# EAGLE library part APS_LPC_M (library flipbit_fmc)
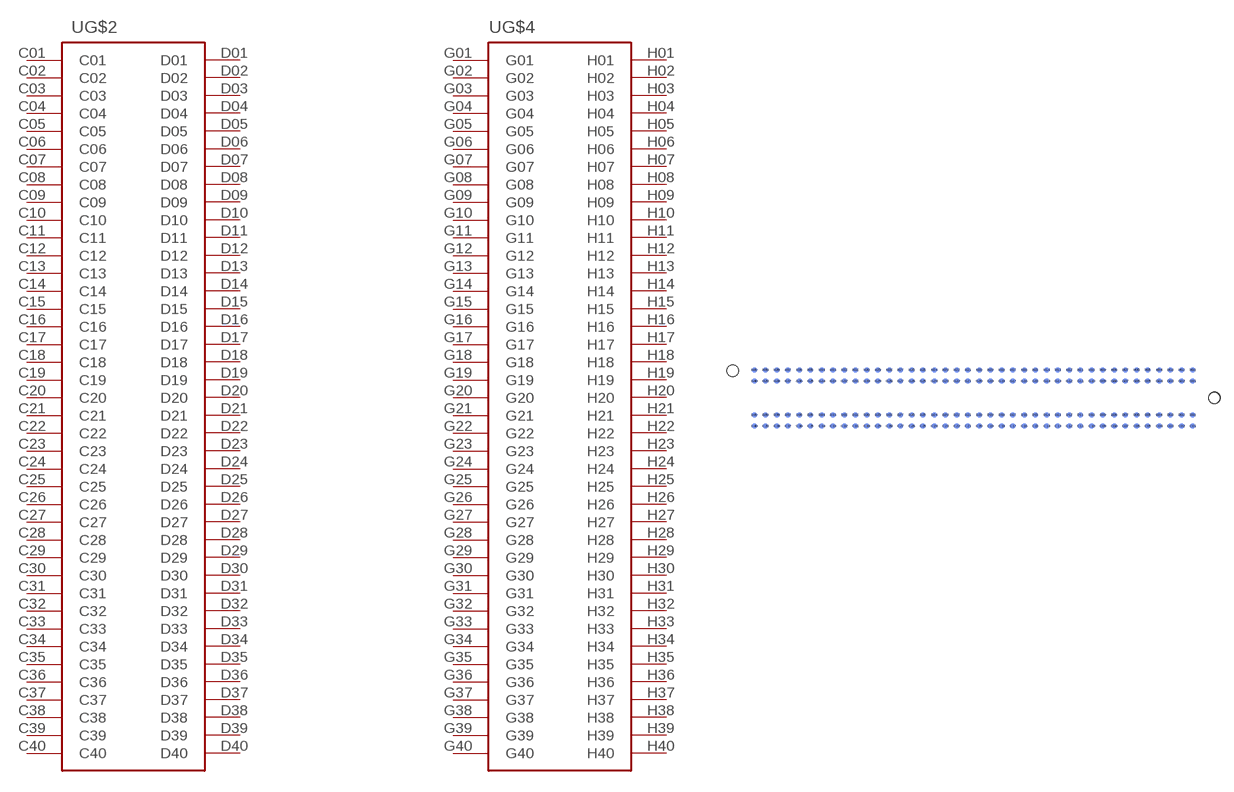
[diagram p5: symbol with the pads of ASP-127797-01; footprint ASP-127797-01]

Designator prefix -; gates G$2=ASP_CD G$4=ASP_GH

## APS_LPC_M  [ASP-127797-01]
C01  G$2:C01
C02  G$2:C02
C03  G$2:C03
C04  G$2:C04
C05  G$2:C05
C06  G$2:C06
C07  G$2:C07
C08  G$2:C08
C09  G$2:C09
C10  G$2:C10
C11  G$2:C11
C12  G$2:C12
C13  G$2:C13
C14  G$2:C14
C15  G$2:C15
C16  G$2:C16
C17  G$2:C17
C18  G$2:C18
C19  G$2:C19
C20  G$2:C20
C21  G$2:C21
C22  G$2:C22
C23  G$2:C23
C24  G$2:C24
C25  G$2:C25
C26  G$2:C26
C27  G$2:C27
C28  G$2:C28
C29  G$2:C29
C30  G$2:C30
C31  G$2:C31
C32  G$2:C32
C33  G$2:C33
C34  G$2:C34
C35  G$2:C35
C36  G$2:C36
C37  G$2:C37
C38  G$2:C38
C39  G$2:C39
C40  G$2:C40
D01  G$2:D01
D02  G$2:D02
D03  G$2:D03
D04  G$2:D04
D05  G$2:D05
D06  G$2:D06
D07  G$2:D07
D08  G$2:D08
D09  G$2:D09
D10  G$2:D10
D11  G$2:D11
D12  G$2:D12
D13  G$2:D13
D14  G$2:D14
D15  G$2:D15
D16  G$2:D16
D17  G$2:D17
D18  G$2:D18
D19  G$2:D19
D20  G$2:D20
D21  G$2:D21
D22  G$2:D22
D23  G$2:D23
D24  G$2:D24
D25  G$2:D25
D26  G$2:D26
D27  G$2:D27
D28  G$2:D28
D29  G$2:D29
D30  G$2:D30
D31  G$2:D31
D32  G$2:D32
D33  G$2:D33
D34  G$2:D34
D35  G$2:D35
D36  G$2:D36
D37  G$2:D37
D38  G$2:D38
D39  G$2:D39
D40  G$2:D40
G01  G$4:G01
G02  G$4:G02
G03  G$4:G03
G04  G$4:G04
G05  G$4:G05
G06  G$4:G06
G07  G$4:G07
G08  G$4:G08
G09  G$4:G09
G10  G$4:G10
G11  G$4:G11
G12  G$4:G12
G13  G$4:G13
G14  G$4:G14
G15  G$4:G15
G16  G$4:G16
G17  G$4:G17
G18  G$4:G18
G19  G$4:G19
G20  G$4:G20
G21  G$4:G21
G22  G$4:G22
G23  G$4:G23
G24  G$4:G24
G25  G$4:G25
G26  G$4:G26
G27  G$4:G27
G28  G$4:G28
G29  G$4:G29
G30  G$4:G30
G31  G$4:G31
G32  G$4:G32
G33  G$4:G33
G34  G$4:G34
G35  G$4:G35
G36  G$4:G36
G37  G$4:G37
G38  G$4:G38
G39  G$4:G39
G40  G$4:G40
H01  G$4:H01
H02  G$4:H02
H03  G$4:H03
H04  G$4:H04
H05  G$4:H05
H06  G$4:H06
H07  G$4:H07
H08  G$4:H08
H09  G$4:H09
H10  G$4:H10
H11  G$4:H11
H12  G$4:H12
H13  G$4:H13
H14  G$4:H14
H15  G$4:H15
H16  G$4:H16
H17  G$4:H17
H18  G$4:H18
H19  G$4:H19
H20  G$4:H20
H21  G$4:H21
H22  G$4:H22
H23  G$4:H23
H24  G$4:H24
H25  G$4:H25
H26  G$4:H26
H27  G$4:H27
H28  G$4:H28
H29  G$4:H29
H30  G$4:H30
H31  G$4:H31
H32  G$4:H32
H33  G$4:H33
H34  G$4:H34
H35  G$4:H35
H36  G$4:H36
H37  G$4:H37
H38  G$4:H38
H39  G$4:H39
H40  G$4:H40

## Footprint ASP-127797-01 (pad centres in mm)
smd 0.635 x 0.635 bottom: C01 24.765,-3.175; C02 23.495,-3.175; C03 22.225,-3.175; C04 20.955,-3.175; C05 19.685,-3.175; C06 18.415,-3.175; C07 17.145,-3.175; C08 15.875,-3.175; C09 14.605,-3.175; C10 13.335,-3.175; C11 12.065,-3.175; C12 10.795,-3.175; C13 9.525,-3.175; C14 8.255,-3.175; C15 6.985,-3.175; C16 5.715,-3.175; C17 4.445,-3.175; C18 3.175,-3.175; C19 1.905,-3.175; C20 0.635,-3.175; C21 -0.635,-3.175; C22 -1.905,-3.175; C23 -3.175,-3.175; C24 -4.445,-3.175; C25 -5.715,-3.175; C26 -6.985,-3.175; C27 -8.255,-3.175; C28 -9.525,-3.175; C29 -10.795,-3.175; C30 -12.065,-3.175; C31 -13.335,-3.175; C32 -14.605,-3.175; C33 -15.875,-3.175; C34 -17.145,-3.175; C35 -18.415,-3.175; C36 -19.685,-3.175; C37 -20.955,-3.175; C38 -22.225,-3.175; C39 -23.495,-3.175; C40 -24.765,-3.175; D01 24.765,-1.905; D02 23.495,-1.905; D03 22.225,-1.905; D04 20.955,-1.905; D05 19.685,-1.905; D06 18.415,-1.905; D07 17.145,-1.905; D08 15.875,-1.905; D09 14.605,-1.905; D10 13.335,-1.905; D11 12.065,-1.905; D12 10.795,-1.905; D13 9.525,-1.905; D14 8.255,-1.905; D15 6.985,-1.905; D16 5.715,-1.905; D17 4.445,-1.905; D18 3.175,-1.905; D19 1.905,-1.905; D20 0.635,-1.905; D21 -0.635,-1.905; D22 -1.905,-1.905; D23 -3.175,-1.905; D24 -4.445,-1.905; D25 -5.715,-1.905; D26 -6.985,-1.905; D27 -8.255,-1.905; D28 -9.525,-1.905; D29 -10.795,-1.905; D30 -12.065,-1.905; D31 -13.335,-1.905; D32 -14.605,-1.905; D33 -15.875,-1.905; D34 -17.145,-1.905; D35 -18.415,-1.905; D36 -19.685,-1.905; D37 -20.955,-1.905; D38 -22.225,-1.905; D39 -23.495,-1.905; D40 -24.765,-1.905; G01 24.765,1.905; G02 23.495,1.905; G03 22.225,1.905; G04 20.955,1.905; G05 19.685,1.905; G06 18.415,1.905; G07 17.145,1.905; G08 15.875,1.905; G09 14.605,1.905; G10 13.335,1.905; G11 12.065,1.905; G12 10.795,1.905; G13 9.525,1.905; G14 8.255,1.905; G15 6.985,1.905; G16 5.715,1.905; G17 4.445,1.905; G18 3.175,1.905; G19 1.905,1.905; G20 0.635,1.905; G21 -0.635,1.905; G22 -1.905,1.905; G23 -3.175,1.905; G24 -4.445,1.905; G25 -5.715,1.905; G26 -6.985,1.905; G27 -8.255,1.905; G28 -9.525,1.905; G29 -10.795,1.905; G30 -12.065,1.905; G31 -13.335,1.905; G32 -14.605,1.905; G33 -15.875,1.905; G34 -17.145,1.905; G35 -18.415,1.905; G36 -19.685,1.905; G37 -20.955,1.905; G38 -22.225,1.905; G39 -23.495,1.905; G40 -24.765,1.905; H01 24.765,3.175; H02 23.495,3.175; H03 22.225,3.175; H04 20.955,3.175; H05 19.685,3.175; H06 18.415,3.175; H07 17.145,3.175; H08 15.875,3.175; H09 14.605,3.175; H10 13.335,3.175; H11 12.065,3.175; H12 10.795,3.175; H13 9.525,3.175; H14 8.255,3.175; H15 6.985,3.175; H16 5.715,3.175; H17 4.445,3.175; H18 3.175,3.175; H19 1.905,3.175; H20 0.635,3.175; H21 -0.635,3.175; H22 -1.905,3.175; H23 -3.175,3.175; H24 -4.445,3.175; H25 -5.715,3.175; H26 -6.985,3.175; H27 -8.255,3.175; H28 -9.525,3.175; H29 -10.795,3.175; H30 -12.065,3.175; H31 -13.335,3.175; H32 -14.605,3.175; H33 -15.875,3.175; H34 -17.145,3.175; H35 -18.415,3.175; H36 -19.685,3.175; H37 -20.955,3.175; H38 -22.225,3.175; H39 -23.495,3.175; H40 -24.765,3.175
hole 1.27 at 27.191,0
hole 1.27 at 27.191,0
hole 1.321 at 27.191,0
hole 1.321 at -27.191,3.048